# EAGLE library part TS5A3159 (library Deegou_IC)
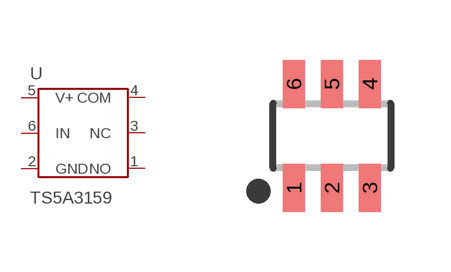
[diagram p11: symbol with the pads of SOT23-6; footprint SOT23-6]

Designator prefix U

## TS5A3159SOT23-6  [SOT23-6]
1  NO
2  GND  pwr
3  NC
4  COM
5  V+  pwr
6  IN  in

## Footprint SOT23-6 (pad centres in mm)
SOT-23 - DBV 0.95 mm pitch
smd 0.55 x 1.2: 1 -0.95,-1.3; 2 0,-1.3; 3 0.95,-1.3; 4 0.95,1.3; 5 0,1.3; 6 -0.95,1.3